# EAGLE library part PCA9685 (library adafruit_PCA9685)
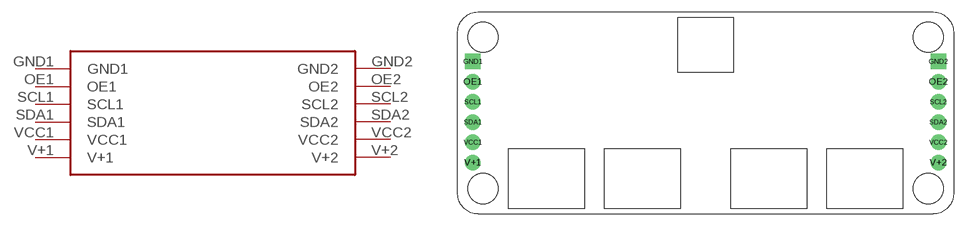
[diagram p0: symbol with the pads of PCA9685; footprint PCA9685]

Designator prefix -

## PCA9685  [PCA9685]
GND1  GND1
GND2  GND2
OE1  OE1
OE2  OE2
SCL1  SCL1
SCL2  SCL2
SDA1  SDA1
SDA2  SDA2
V+1  V+1
V+2  V+2
VCC1  VCC1
VCC2  VCC2

## Footprint PCA9685 (pad centres in mm)
drill 1.016 pad 1.93 square: GND1 1.905,19.177; GND2 60.325,19.177
drill 1.016 pad 1.93: OE1 1.905,16.637; OE2 60.325,16.637; SCL1 1.905,14.097; SCL2 60.325,14.097; SDA1 1.905,11.557; SDA2 60.325,11.557; V+1 1.905,6.477; V+2 60.325,6.477; VCC1 1.905,9.017; VCC2 60.325,9.017